# Altium schematic symbol library 2019-10-18_23-59-06.SchLib: 2 symbols
Pins are listed as number, name and electrical type; pins without a type are passive.

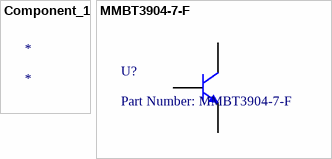
[diagram p0: symbols Component_1 to MMBT3904-7-F]

## Component_1
designator *

## MMBT3904-7-F
designator U?, comment Part Number: MMBT3904-7-F
No Description Available; Vendor: Diodes Inc; Built_By: EMA_UL_Team; Manufacturer_Part_Number: MMBT3904-7-F; Copyright: Copyright (C) 2018 Accelerated Designs. All rights reserved; RefDes: RefDes; Type: DEV; Value: Value
footprint SOT-23
pins: 1 B, 2 E, 3 C